# EAGLE library part LTC3125 (library Bauteile)
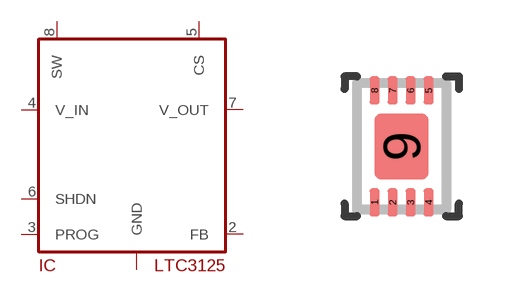
[diagram p101: symbol with the pads of DCB; footprint DCB]

Designator prefix IC

## LTC3125  [DCB]
1  GND
2  FB
3  PROG
4  V_IN
5  CS
6  SHDN
7  V_OUT
8  SW
9  GND

## Footprint DCB (pad centres in mm)
smd 0.25 x 0.7: 1 -0.675,-1.4; 2 -0.225,-1.4; 3 0.225,-1.4; 4 0.675,-1.4; 5 0.675,1.4; 6 0.225,1.4; 7 -0.225,1.4; 8 -0.675,1.4
smd 1.35 x 1.65: 9 0,0